# EAGLE library part TS5A3157 (library custom)
Analog SPDT Switch 10 Ohm 1.65-5.5V 300MHz
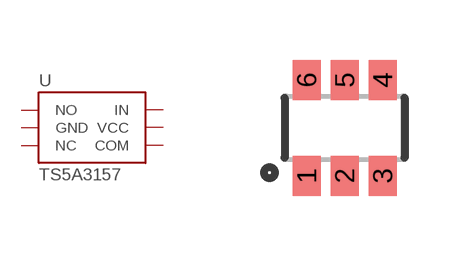
[diagram p106: symbol with the pads of SOT23-6; footprint SOT23-6]

Designator prefix U

## TS5A3157  [SOT23-6]
1  NO
2  GND
3  NC
4  COM
5  VCC
6  IN

## Footprint SOT23-6 (pad centres in mm)
smd 0.7 x 1: 1 -0.95,-1.2; 2 0,-1.2; 3 0.95,-1.2; 4 0.95,1.2; 5 0,1.2; 6 -0.95,1.2